# EAGLE library part IP4234CZ6 (library PP_Passives)
Mouser Part #: 771-IP4234CZ6125 Manufacturer Part #: IP4234CZ6,125 Manufacturer: NXP Semiconductors Description: ESD Suppressors Single USB 2.0 ESD Protection 6-Pin http://www.mouser.com/ProductDetail/NXP-Semiconductors/IP4234CZ6125/?qs=sGAEpiMZZMvxHShE6Whpu7QUdHOfUl1T0xbl582qhFk%3d
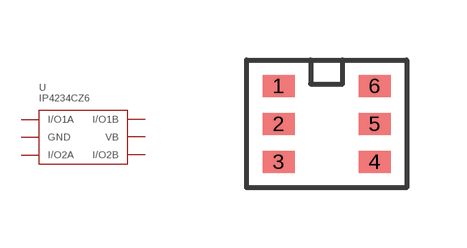
[diagram p0: symbol with the pads of IP4234CZ6_SOT-457-6; footprint IP4234CZ6_SOT-457-6]

Designator prefix U

## IP4234CZ6  [IP4234CZ6_SOT-457-6]
1  I/O1A
2  GND
3  I/O1B
4  I/O2B
5  VB
6  I/O2A

## Footprint IP4234CZ6_SOT-457-6 (pad centres in mm)
smd 0.8 x 0.55: 1 -1.2,0.95; 2 -1.2,0; 3 -1.2,-0.95; 4 1.2,-0.95; 5 1.2,0; 6 1.2,0.95